# Altium footprint library QFN-28_L5.0-W4.0-P0.50-BL-EP.PcbLib: 1 footprints
Each footprint in its own frame and in the unit in brackets; x right, y up, seen from the top. Pads: shape width x height; smd on the part's side, far side on the other; paste and mask are expansions set on the pad; w line width, h text height; cw(c..) or ccw(c..) is an arc to the next point about the centre after c.
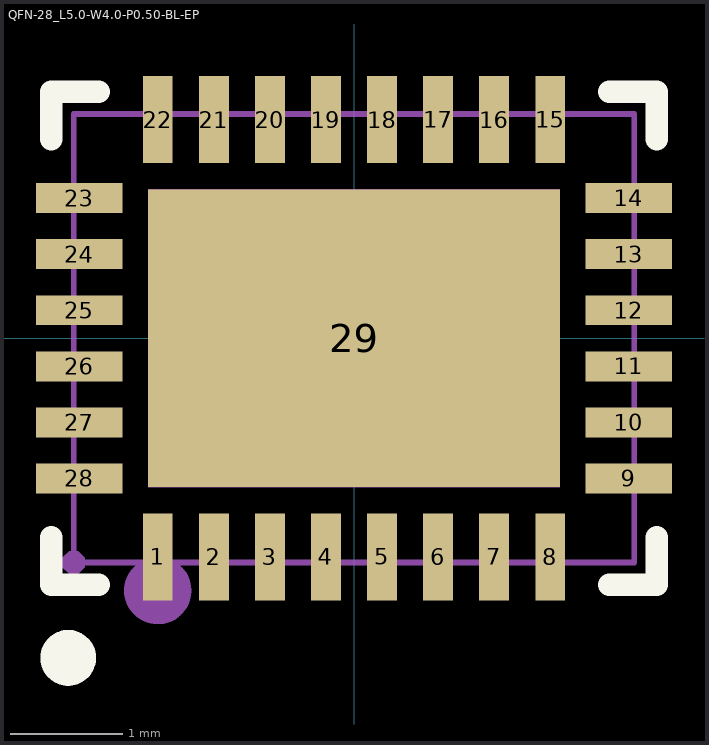
[diagram p0: the footprint, top view; thin cyan lines are the x and y axes]

## QFN-28_L5.0-W4.0-P0.50-BL-EP [mil]
pads (29):
  rect 10.5x30.5 smd paste-3937 mask+1.97: 1(-68.89,-76.78) 2(-49.22,-76.78) 3(-29.52,-76.78) 4(-9.85,-76.78) 5(9.85,-76.78) 6(29.52,-76.78) 7(49.22,-76.78) 8(68.89,-76.78) 15(68.89,76.78) 16(49.22,76.78) 17(29.52,76.78) 18(9.85,76.78) 19(-9.85,76.78) 20(-29.52,76.78) 21(-49.22,76.78) 22(-68.89,76.78)
  rect 30.51x10.51 smd paste-3937 mask+1.97: 9(96.45,-49.22) 10(96.45,-29.52) 11(96.45,-9.85) 12(96.45,9.85) 13(96.45,29.52) 14(96.45,49.22) 23(-96.45,49.22) 24(-96.45,29.52) 25(-96.45,9.85) 26(-96.45,-9.85) 27(-96.45,-29.52) 28(-96.45,-49.22)
  rect 144.49x104.49 smd paste-3937 mask+1.97: 29(0.01,-0.01)
Top Overlay:
  lines w7.9: -106.3,-69.9 -106.3,-86.6 -89.6,-86.6 ; -106.3,69.9 -106.3,86.6 -89.6,86.6 ; 89.6,-86.6 106.3,-86.6 106.3,-69.9 ; 89.6,86.6 106.3,86.6 106.3,69.9
  lines w9.8: -100.4,-107.3 ccw(c-100.35,-112.2) -100.35,-117.1 ccw(c-100.35,-112.2) -100.3,-107.3
Top Paste:
  region: -111.71,-43.96 -81.2,-43.96 -81.2,-54.47 -111.71,-54.47
  region: -111.71,-24.27 -81.2,-24.27 -81.2,-34.78 -111.71,-34.78
  region: -111.71,-4.59 -81.2,-4.59 -81.2,-15.1 -111.71,-15.1
  region: -111.71,15.1 -81.2,15.1 -81.2,4.59 -111.71,4.59
  region: -111.71,34.78 -81.2,34.78 -81.2,24.27 -111.71,24.27
  region: -111.71,54.47 -81.2,54.47 -81.2,43.96 -111.71,43.96
  region: -74.14,92.03 -63.64,92.03 -63.64,61.53 -74.14,61.53
  region: -54.47,92.03 -43.97,92.03 -43.97,61.53 -54.47,61.53
  region: -34.77,92.03 -24.27,92.03 -24.27,61.53 -34.77,61.53
  region: -15.1,92.03 -4.6,92.03 -4.6,61.53 -15.1,61.53
  region: 4.6,92.03 15.1,92.03 15.1,61.53 4.6,61.53
  region: 24.27,92.03 34.77,92.03 34.77,61.53 24.27,61.53
  region: 43.97,92.03 54.47,92.03 54.47,61.53 43.97,61.53
  region: 63.64,92.03 74.14,92.03 74.14,61.53 63.64,61.53
  region: 81.2,54.47 111.71,54.47 111.71,43.96 81.2,43.96
  region: 81.2,34.78 111.71,34.78 111.71,24.27 81.2,24.27
  region: 81.2,15.1 111.71,15.1 111.71,4.59 81.2,4.59
  region: 81.2,-4.59 111.71,-4.59 111.71,-15.1 81.2,-15.1
  region: 81.2,-24.27 111.71,-24.27 111.71,-34.78 81.2,-34.78
  region: 81.2,-43.96 111.71,-43.96 111.71,-54.47 81.2,-54.47
  region: 63.64,-61.53 74.14,-61.53 74.14,-92.03 63.64,-92.03
  region: 43.97,-61.53 54.47,-61.53 54.47,-92.03 43.97,-92.03
  region: 24.27,-61.53 34.77,-61.53 34.77,-92.03 24.27,-92.03
  region: 4.6,-61.53 15.1,-61.53 15.1,-92.03 4.6,-92.03
  region: -15.1,-61.53 -4.6,-61.53 -4.6,-92.03 -15.1,-92.03
  region: -34.77,-61.53 -24.27,-61.53 -24.27,-92.03 -34.77,-92.03
  region: -54.47,-61.53 -43.97,-61.53 -43.97,-92.03 -54.47,-92.03
  region: -74.14,-61.53 -63.64,-61.53 -63.64,-92.03 -74.14,-92.03
  region: -57.79,41.79 57.8,41.79 57.8,-41.8 -57.79,-41.8
Mechanical 6:
  circle w11.81: c-68.89,-88.58 r5.91
Mechanical 15:
  drawing of 38 lines, arcs and shapes, not listed